# Altium footprint library STM32_PLC.PcbLib: 129 footprints (part 6 of 9)
Each footprint in its own frame and in the unit in brackets; x right, y up, seen from the top. Pads: shape width x height; smd on the part's side, far side on the other; paste and mask are expansions set on the pad; w line width, h text height; cw(c..) or ccw(c..) is an arc to the next point about the centre after c.
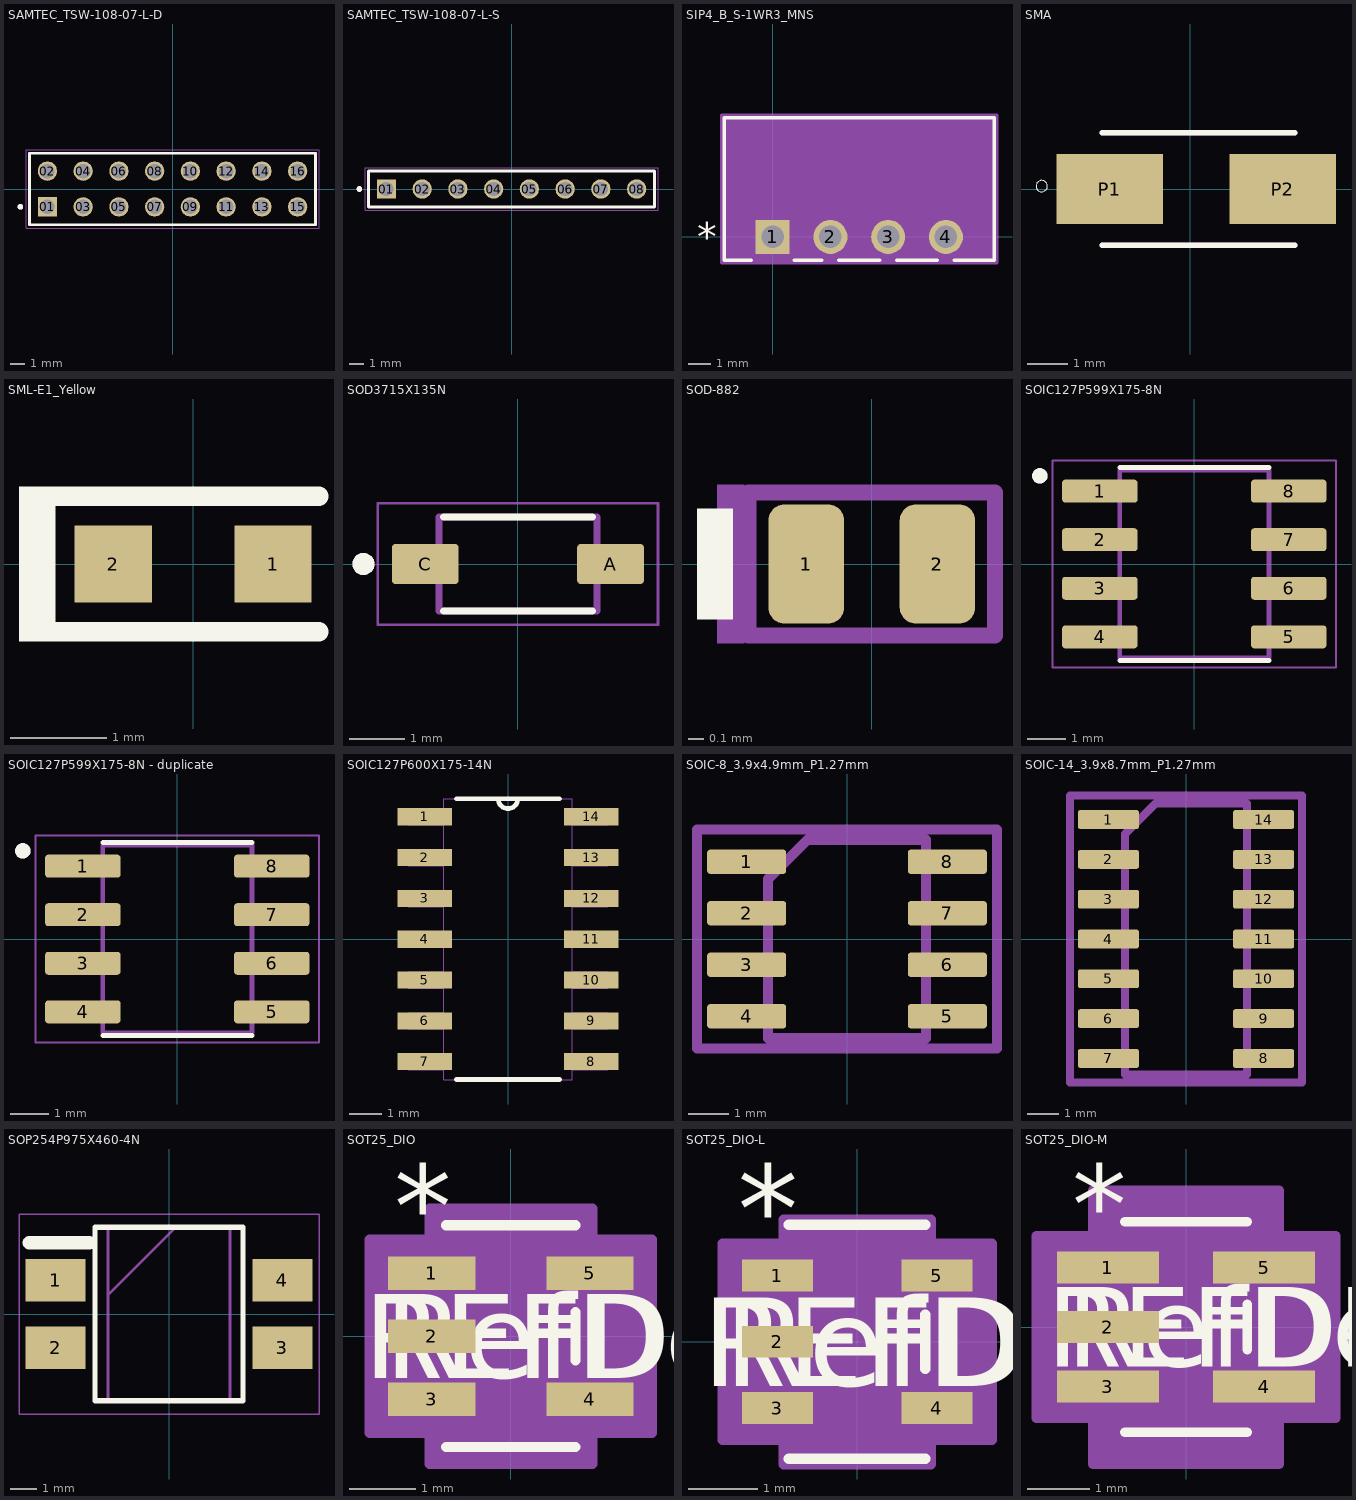
[diagram p5: the footprints below, top view; thin cyan lines are the x and y axes]

## SAMTEC_TSW-108-07-L-D [mm]
pads (16):
  rect 1.37x1.37 hole 1.02: 01(-8.89,-1.27)
  round 1.37 hole 1.02: 02(-8.89,1.27) 03(-6.35,-1.27) 04(-6.35,1.27) 05(-3.81,-1.27) 06(-3.81,1.27) 07(-1.27,-1.27) 08(-1.27,1.27) 09(1.27,-1.27) 10(1.27,1.27) 11(3.81,-1.27) 12(3.81,1.27) 13(6.35,-1.27) 14(6.35,1.27) 15(8.89,-1.27) 16(8.89,1.27)
Top Overlay:
  circle w0.2: c-10.81,-1.27 r0.1
  lines w0.2: -10.16,-2.54 10.16,-2.54 10.16,2.54 -10.16,2.54 -10.16,-2.54
Mechanical 13:
  circle w0.2: c-10.81,-1.27 r0.1
  lines w0.1: -10.16,-2.54 -10.16,2.54 ; -10.16,-2.54 10.16,-2.54 ; -10.16,-2.54 -10.16,2.54 ; -10.16,2.54 10.16,2.54 ; -10.16,2.54 10.16,2.54 ; 10.16,-2.54 10.16,2.54 ; 10.16,-2.54 10.16,2.54
Mechanical 15:
  lines w0.05: -10.41,-2.79 10.41,-2.79 10.41,2.79 -10.41,2.79 -10.41,-2.79

## SAMTEC_TSW-108-07-L-S [mm]
pads (8):
  rect 1.37x1.37 hole 1.02: 01(-8.89,0)
  round 1.37 hole 1.02: 02(-6.35,0) 03(-3.81,0) 04(-1.27,0) 05(1.27,0) 06(3.81,0) 07(6.35,0) 08(8.89,0)
Top Overlay:
  circle w0.2: c-10.81,0 r0.1
  lines w0.2: -10.16,-1.27 -10.16,1.27 10.16,1.27 10.16,-1.27 -10.16,-1.27
Mechanical 13:
  circle w0.2: c-10.81,0 r0.1
  lines w0.1: -10.16,-1.27 -10.16,1.27 ; -10.16,-1.27 10.16,-1.27 ; -10.16,-1.27 -10.16,1.27 ; -10.16,1.27 10.16,1.27 ; -10.16,1.27 10.16,1.27 ; 10.16,-1.27 10.16,1.27 ; 10.16,-1.27 10.16,1.27
Mechanical 15:
  lines w0.05: -10.41,-1.52 -10.41,1.52 10.41,1.52 10.41,-1.52 -10.41,-1.52
3D body "PinHeader_1x08_P2.54mm_Vertical.step": height 8.54, standoff -3, extent -10.16,-1.27 10.16,1.27

## SIP4_B_S-1WR3_MNS [mil]
pads (4):
  rect 59x59 hole 39 paste-99999 mask+0: 1(0,0)
  round 59 hole 39 paste-99999 mask+0: 2(100,0) 3(200,0) 4(300,0)
Top Overlay:
  lines w6: -37.33,-40 -83.5,-40 -83.5,206 383.5,206 383.5,-40 314.65,-40 ; 37.33,-40 85.35,-40 ; 114.65,-40 185.35,-40 ; 214.65,-40 285.35,-40
  text ".Designator" at 12.5,58 h50
  text "*" at -131,-25 h50
Mechanical 13:
  lines w1: -78.5,-35 -78.5,201 378.5,201 378.5,-35 -78.5,-35
  text "*" at -81,-25 h50
  text ".Designator" at 12.5,58 h50
Mechanical 15:
  region: 388.5,-45 -88.5,-45 -88.5,211 388.5,211
  lines w6: -88.5,-45 388.5,-45 388.5,211 -88.5,211 -88.5,-45
3D body "SIP4_B_S-1WR3_MNS.step": height 400, standoff -215.98, extent -78.5,-35.98 378.5,200

## SMA [mm]
pads (2):
  rect 2.65x1.75 smd paste+0 mask+0.102: P1(-2,0) P2(2.3,0)
Top Overlay:
  circle w0: c-3.699,0.072 r0.141
  lines w0.127: -2.2,-1.4 2.6,-1.4 ; -2.2,1.4 2.6,1.4
Mechanical 13:
  lines w0.127: -2.2,-1.4 2.6,-1.4 ; -2.2,1.4 2.6,1.4
3D body "step_temp.STEP": height 2.5, standoff 0, extent -2.6,-1.362 2.6,1.362

## SML-E1_Yellow [mm] "SMD, 2-Leads, Body 1.6x0.8mm"
height 0.46
pads (2):
  rect 0.8x0.8 smd: 1(0.825,0) 2(-0.825,0)
Top Overlay:
  rectangle: -1.8,-0.8 -1.525,0.8
  lines w0.2: 1.3,-0.7 -1.525,-0.7 -1.525,0.7 1.3,0.7
Mechanical 5:
  rectangle: -1.8,-0.75 -1.525,0.75
  lines w0.1: 1.3,-0.7 -1.525,-0.7 -1.525,0.7 1.3,0.7
  text ".Designator" at -1,-0.2 h0.51
3D body: height 0.13, standoff 0, extent -0.85,-0.45 0.85,0.45
3D body: height 0.46, standoff 0.13, extent -0.5,-0.45 0.5,0.45
3D body: height 0, standoff -0.01, extent -0.2,-0.2 0.2,0.2

## SOD3715X135N [mm]
pads (2):
  rrect18% 1.21x0.73 smd paste+0 mask+0.102: A(1.68,0) C(-1.68,0)
Top Overlay:
  circle w0.2: c-2.8,0 r0.1
  lines w0.127: -1.35,-0.85 1.35,-0.85 ; -1.35,0.85 1.35,0.85
Mechanical 13:
  circle w0.2: c-2.8,0 r0.1
  lines w0.127: -1.43,-0.85 1.43,-0.85 1.43,0.85 -1.43,0.85 -1.43,-0.85
Mechanical 15:
  lines w0.05: -2.54,-1.1 2.54,-1.1 2.54,1.1 -2.54,1.1 -2.54,-1.1
3D body "step_temp.STEP": height 1.1, standoff 0.1, extent -1.9,-0.762 1.9,0.838

## SOD-882 [mm] "Skyworks"
height 0.5
pads (4):
  rrect42% 0.475x0.75 smd mask-3: 1(-0.412,0) 2(0.412,0)
  rrect50% 0.475x0.75 on Top Solder mask-3: 1(-0.412,0) 2(0.412,0)
Top Overlay:
  rectangle: -1.1,-0.35 -0.875,0.35
Mechanical 5:
  rectangle: -0.975,-0.5 -0.8,0.5
  lines w0.1: -0.775,-0.45 -0.775,0.45 0.775,0.45 0.775,-0.45 -0.775,-0.45
  text ".Designator" at -0.575,-0.15 h0.3
3D body: height 0.5, standoff 0.5, extent -0.406,-0.2 -0.3,0.2
3D body: height 0.5, standoff 0, extent -0.5,-0.3 0.5,0.3

## SOIC127P599X175-8N [mm]
pads (8):
  rrect25% 1.97x0.6 smd paste+0 mask+0.102: 1(-2.47,1.905) 2(-2.47,0.635) 3(-2.47,-0.635) 4(-2.47,-1.905) 5(2.47,-1.905) 6(2.47,-0.635) 7(2.47,0.635) 8(2.47,1.905)
Top Overlay:
  circle w0.2: c-4.04,2.305 r0.1
  lines w0.127: -1.95,-2.525 1.95,-2.525 ; -1.95,2.525 1.95,2.525
Mechanical 13:
  circle w0.2: c-4.04,2.305 r0.1
  lines w0.127: -1.95,-2.452 1.95,-2.452 1.95,2.452 -1.95,2.452 -1.95,-2.452
Mechanical 15:
  lines w0.05: -3.705,-2.702 3.705,-2.702 3.705,2.702 -3.705,2.702 -3.705,-2.702
3D body "step_temp.STEP": height 1.75, standoff 0, extent -2.995,-2.452 2.995,2.452

## SOIC127P599X175-8N - duplicate [mm]
pads (8):
  rrect25% 1.97x0.6 smd paste+0 mask+0: 1(-2.47,1.905) 2(-2.47,0.635) 3(-2.47,-0.635) 4(-2.47,-1.905) 5(2.47,-1.905) 6(2.47,-0.635) 7(2.47,0.635) 8(2.47,1.905)
Top Overlay:
  circle w0.2: c-4.04,2.305 r0.1
  lines w0.127: -1.95,-2.525 1.95,-2.525 ; -1.95,2.525 1.95,2.525
Mechanical 13:
  circle w0.2: c-4.04,2.305 r0.1
  lines w0.127: -1.95,-2.452 -1.95,2.452 1.95,2.452 1.95,-2.452 -1.95,-2.452
Mechanical 15:
  lines w0.05: -3.705,-2.702 -3.705,2.702 3.705,2.702 3.705,-2.702 -3.705,-2.702
3D body "step_temp.STEP": height 1.75, standoff 0, extent -2.995,-2.452 2.995,2.452

## SOIC127P600X175-14N [mil]
pads (14):
  rect 67x21 smd: 1(-102,150) 2(-102,100) 3(-102,50) 4(-102,0) 5(-102,-50) 6(-102,-100) 7(-102,-150) 8(102,-150) 9(102,-100) 10(102,-50) 11(102,0) 12(102,50) 13(102,100) 14(102,150)
Top Overlay:
  lines w6: -63,-172 63,-172 ; -63,172 -12,172 ; 63,172 12,172 ; -12,172 ccw(c0,172) 12,172 ; -12,172 12,172
Mechanical 13:
  lines w0: -12,172 ccw(c0,172) 12,172 ; -12,172 -79,172 -79,-172 79,-172 79,172 12,172 ; -12,172 12,172 ; -122,-160 -79,-160 -79,-140 -122,-140 -122,-160 ; -122,-110 -79,-110 -79,-90 -122,-90 -122,-110 ; -122,-60 -79,-60 -79,-40 -122,-40 -122,-60 ; -122,-10 -79,-10 -79,10 -122,10 -122,-10 ; -122,40 -79,40 -79,60 -122,60 -122,40 ; -122,90 -79,90 -79,110 -122,110 -122,90 ; -122,140 -79,140 -79,160 -122,160 -122,140 ; 79,-160 122,-160 122,-140 79,-140 79,-160 ; 79,-110 122,-110 122,-90 79,-90 79,-110 ; 79,-60 122,-60 122,-40 79,-40 79,-60 ; 79,-10 122,-10 122,10 79,10 79,-10 ; 79,40 122,40 122,60 79,60 79,40 ; 79,90 122,90 122,110 79,110 79,90 ; 79,140 122,140 122,160 79,160 79,140
3D body "step_temp.STEP": height 68.9, standoff 0, extent -118.11,-170.28 118.11,170.28

## SOIC-8_3.9x4.9mm_P1.27mm [mm]
pads (8):
  rrect25% 1.95x0.6 smd: 1(-2.475,1.905) 2(-2.475,0.635) 3(-2.475,-0.635) 4(-2.475,-1.905) 5(2.475,-1.905) 6(2.475,-0.635) 7(2.475,0.635) 8(2.475,1.905)
Mechanical 4:
  lines w0.254: -3.7,-2.7 3.7,-2.7 3.7,2.7 -3.7,2.7 -3.7,-2.7
Mechanical 6:
  lines w0.254: -1.95,-2.45 1.95,-2.45 1.95,2.45 -0.975,2.45 -1.95,1.475 -1.95,-2.45
  text "'.Designator'" at -1.411,-0.391 h0.98
3D body "SOIC-8_3.9x4.9mm_P1.27mm.step": height 1.75, standoff 0, extent -3,-2.45 3,2.45

## SOIC-14_3.9x8.7mm_P1.27mm [mm]
pads (14):
  rrect25% 1.95x0.6 smd: 1(-2.475,3.81) 2(-2.475,2.54) 3(-2.475,1.27) 4(-2.475,0) 5(-2.475,-1.27) 6(-2.475,-2.54) 7(-2.475,-3.81) 8(2.475,-3.81) 9(2.475,-2.54) 10(2.475,-1.27) 11(2.475,0) 12(2.475,1.27) 13(2.475,2.54) 14(2.475,3.81)
Mechanical 4:
  lines w0.254: -3.7,-4.58 3.7,-4.58 3.7,4.58 -3.7,4.58 -3.7,-4.58
Mechanical 6:
  lines w0.254: -1.95,-4.325 1.95,-4.325 1.95,4.325 -0.975,4.325 -1.95,3.35 -1.95,-4.325
  text "'.Designator'" at -1.411,-0.391 h0.98
3D body "SOIC-14_3.9x8.7mm_P1.27mm.step": height 1.75, standoff 0, extent -3,-4.382 3,4.318

## SOP254P975X460-4N [mm]
pads (4):
  rect 2.25x1.6 smd: 1(-4.25,1.27) 2(-4.25,-1.27) 3(4.25,-1.27) 4(4.25,1.27)
Top Overlay:
  lines w0.2: -2.775,-3.25 2.775,-3.25 2.775,3.25 -2.775,3.25 -2.775,-3.25
  lines w0.508: -5.248,2.674 -2.998,2.674
Mechanical 13:
  lines w0.05: -5.625,-3.75 5.625,-3.75 5.625,3.75 -5.625,3.75 -5.625,-3.75
  lines w0.1: -2.29,0.71 0.25,3.25 ; -2.29,-3.25 2.29,-3.25 2.29,3.25 -2.29,3.25 -2.29,-3.25
3D body "step_temp.STEP": height 4, standoff 0, extent -5,-2.29 5,2.29

## SOT25_DIO [mil]
pads (5):
  rect 52x20 smd paste+0 mask+0: 1(-47,37.4) 2(-47,0) 3(-47,-37.4) 4(47,-37.4) 5(47,37.4)
Top Overlay:
  lines w6: -38.5,-66 38.5,-66 ; -38.5,66 38.5,66 ; 38.5,-14.3 38.5,14.3
  text "REFDES" at -87.5,-25 h50
  text "*" at -69.5,52.4 h50
  text "RefDes" at -75,-25 h50
Mechanical 13:
  lines w0: -12,61 ccw(c0,61) 12,61
  lines w1: -59,-47.4 -59,-27.4 -33.5,-27.4 -33.5,-47.4 -59,-47.4 ; -59,-10 -59,10 -33.5,10 -33.5,-10 -59,-10 ; -59,27.4 -59,47.4 -33.5,47.4 -33.5,27.4 -59,27.4 ; -33.5,-61 33.5,-61 33.5,61 -33.5,61 -33.5,-61 ; 33.5,-47.4 33.5,-27.4 59,-27.4 59,-47.4 33.5,-47.4 ; 33.5,27.4 33.5,47.4 59,47.4 59,27.4 33.5,27.4
  text "*" at -36,9.4 h50
  text "RefDes2" at -87.5,-25 h50
Mechanical 15:
  region: 48.5,-76 -48.5,-76 -48.5,-57.4 -84,-57.4 -84,57.4 -48.5,57.4 -48.5,76 48.5,76 48.5,57.4 84,57.4 84,-57.4 48.5,-57.4
  lines w6: -84,-57.4 -48.5,-57.4 -48.5,-76 48.5,-76 48.5,-57.4 84,-57.4 84,57.4 48.5,57.4 48.5,76 -48.5,76 -48.5,57.4 -84,57.4 -84,-57.4
3D body "SOT25_DIO.step": height 57.09, standoff 0, extent -59.02,-60.98 59.02,60.98

## SOT25_DIO-L [mil]
pads (5):
  rect 40x18 smd paste+0 mask+0: 1(-45,37.4) 2(-45,0) 3(-45,-37.4) 4(45,-37.4) 5(45,37.4)
Top Overlay:
  lines w6: -38.5,-66 38.5,-66 ; -38.5,66 38.5,66 ; 38.5,-15.3 38.5,15.3
  text "RefDes" at -75,-25 h50
  text "*" at -67.5,50.4 h50
  text "REFDES" at -87.5,-25 h50
Mechanical 13:
  lines w0: -12,61 ccw(c0,61) 12,61
  lines w1: -59,-47.4 -33.5,-47.4 -33.5,-27.4 -59,-27.4 -59,-47.4 ; -59,-10 -33.5,-10 -33.5,10 -59,10 -59,-10 ; -59,27.4 -33.5,27.4 -33.5,47.4 -59,47.4 -59,27.4 ; -33.5,-61 -33.5,61 33.5,61 33.5,-61 -33.5,-61 ; 33.5,-47.4 59,-47.4 59,-27.4 33.5,-27.4 33.5,-47.4 ; 33.5,27.4 59,27.4 59,47.4 33.5,47.4 33.5,27.4
  text "RefDes2" at -87.5,-25 h50
  text "*" at -36,7.4 h50
Mechanical 15:
  region: 41.5,-69 -41.5,-69 -41.5,-55.4 -76,-55.4 -76,55.4 -41.5,55.4 -41.5,69 41.5,69 41.5,55.4 76,55.4 76,-55.4 41.5,-55.4
  lines w6: -76,-55.4 -76,55.4 -41.5,55.4 -41.5,69 41.5,69 41.5,55.4 76,55.4 76,-55.4 41.5,-55.4 41.5,-69 -41.5,-69 -41.5,-55.4 -76,-55.4
3D body "SOT25_DIO.step": height 57.09, standoff 0, extent -59.02,-60.98 59.02,60.98

## SOT25_DIO-M [mil]
pads (5):
  rect 64x20 smd paste+0 mask+0: 1(-49,37.4) 2(-49,0) 3(-49,-37.4) 4(49,-37.4) 5(49,37.4)
Top Overlay:
  lines w6: -38.5,-66 38.5,-66 ; -38.5,66 38.5,66 ; 38.5,-14.3 38.5,14.3
  text "RefDes" at -75,-25 h50
  text "*" at -71.5,52.4 h50
  text "REFDES" at -87.5,-25 h50
Mechanical 13:
  lines w0: -12,61 ccw(c0,61) 12,61
  lines w1: -59,-47.4 -33.5,-47.4 -33.5,-27.4 -59,-27.4 -59,-47.4 ; -59,-10 -33.5,-10 -33.5,10 -59,10 -59,-10 ; -59,27.4 -33.5,27.4 -33.5,47.4 -59,47.4 -59,27.4 ; -33.5,-61 -33.5,61 33.5,61 33.5,-61 -33.5,-61 ; 33.5,-47.4 59,-47.4 59,-27.4 33.5,-27.4 33.5,-47.4 ; 33.5,27.4 59,27.4 59,47.4 33.5,47.4 33.5,27.4
  text "RefDes2" at -87.5,-25 h50
  text "*" at -36,9.4 h50
Mechanical 15:
  region: 58.5,-86 -58.5,-86 -58.5,-57.4 -94,-57.4 -94,57.4 -58.5,57.4 -58.5,86 58.5,86 58.5,57.4 94,57.4 94,-57.4 58.5,-57.4
  lines w6: -94,-57.4 -94,57.4 -58.5,57.4 -58.5,86 58.5,86 58.5,57.4 94,57.4 94,-57.4 58.5,-57.4 58.5,-86 -58.5,-86 -58.5,-57.4 -94,-57.4
3D body "SOT25_DIO.step": height 57.09, standoff 0, extent -59.02,-60.98 59.02,60.98